# Altium footprint library poe.PcbLib: 26 footprints (part 1 of 2)
Each footprint in its own frame and in the unit in brackets; x right, y up, seen from the top. Pads: shape width x height; smd on the part's side, far side on the other; paste and mask are expansions set on the pad; w line width, h text height; cw(c..) or ccw(c..) is an arc to the next point about the centre after c.
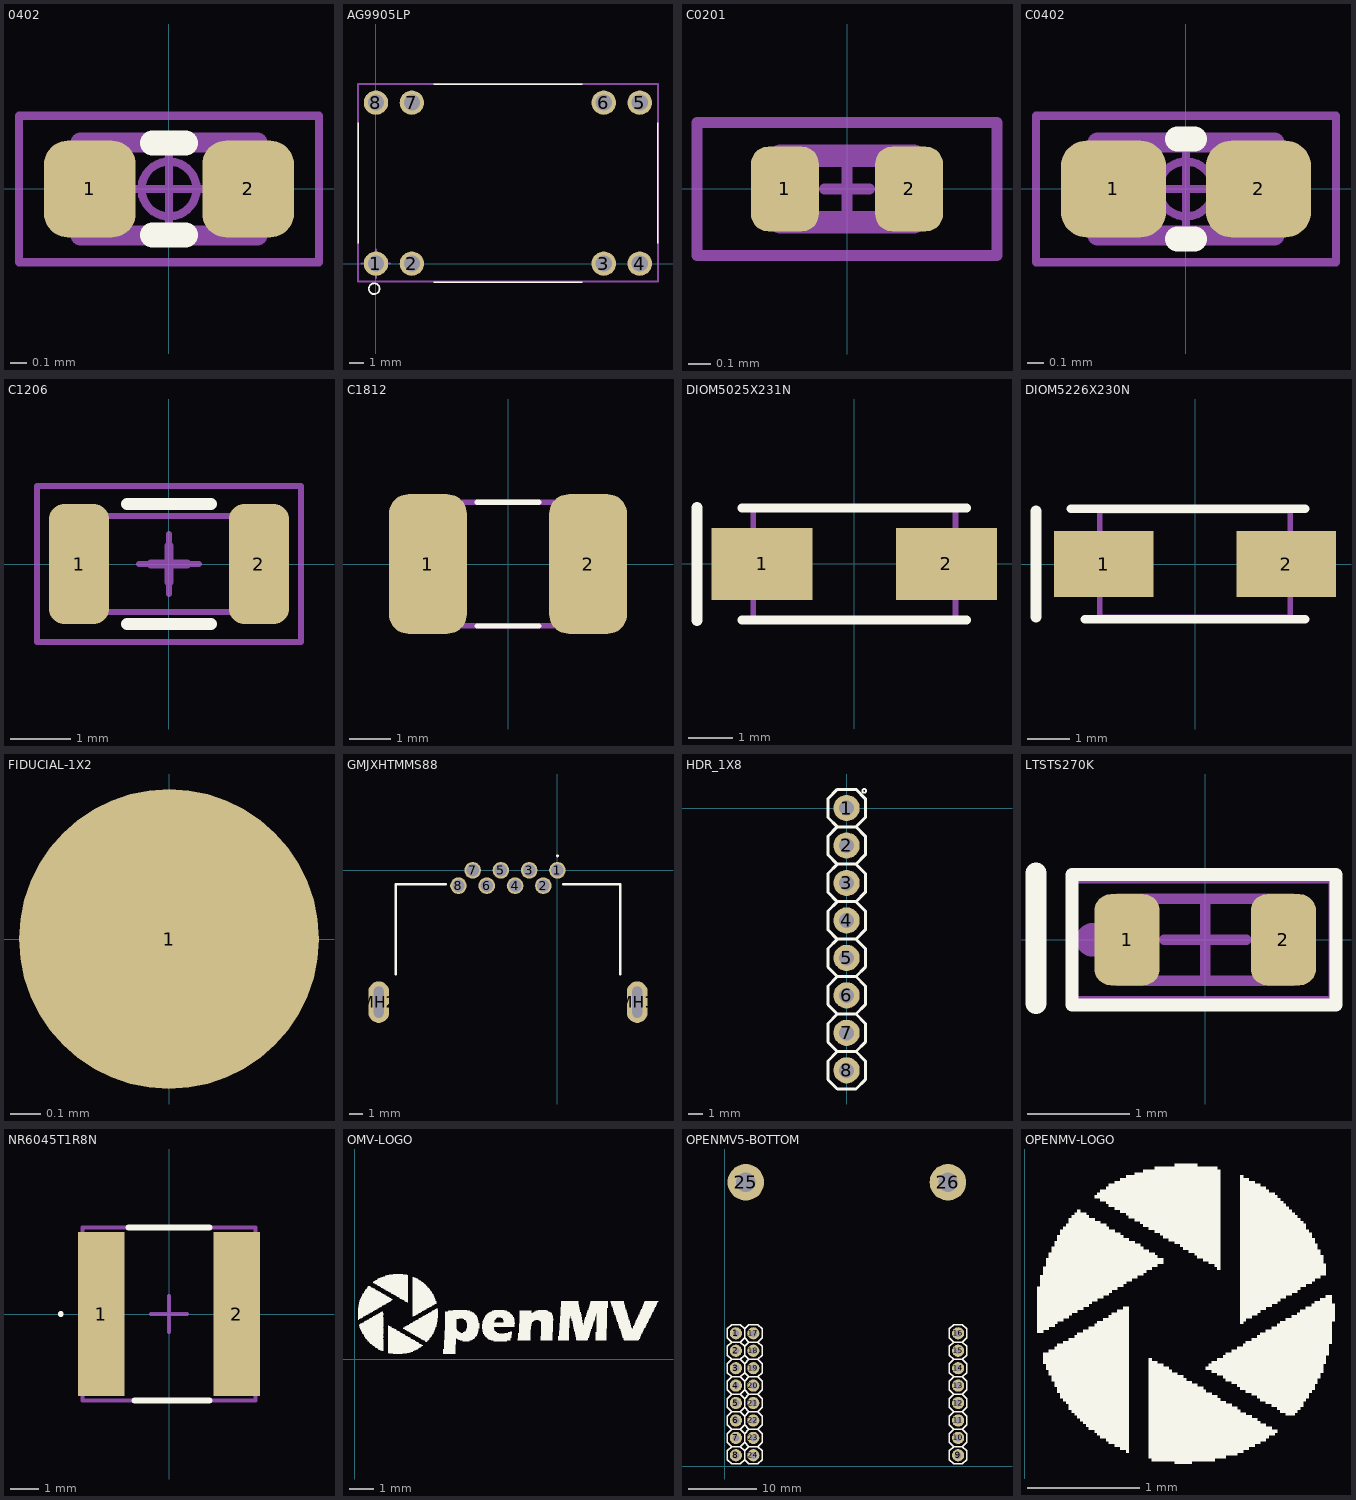
[diagram p0: the footprints below, top view; thin cyan lines are the x and y axes]

## 0402 [mm] "0402"
pads (2):
  rrect51% 0.55x0.58 smd mask+0.05: 1(-0.475,0) 2(0.475,0)
Top Overlay:
  lines w0.15: -0.1,-0.275 0.1,-0.275 ; -0.1,0.275 0.1,0.275
Mechanical 13:
  lines w0.12: -0.53,-0.28 -0.53,0.28 0.53,0.28 0.53,-0.28 -0.53,-0.28
  text ".designator" at -0.432,-0.152 h0.3
Mechanical 15:
  circle w0.05: c0,0 r0.165
  lines w0.05: -0.22,0 0.22,0 ; 0,-0.22 0,0.22 ; -0.9,-0.44 -0.9,0.44 0.9,0.44 0.9,-0.44 -0.9,-0.44
3D body "RES-0402.stp": height 0.34, standoff 0, extent -0.5,-0.25 0.5,0.25

## AG9905LP [mil] "AG9905LP"
pads (8):
  round 67.91 / inner round 0 / far side round 67.91 hole 45.28: 1(0,0) 2(100,0) 3(634.25,0) 4(734.25,0) 5(734.25,448.03) 6(634.25,448.03) 7(100,448.03) 8(0,448.03)
Top Overlay:
  circle w5: c-5,-70 r15
  lines w3.94: -50,56.69 -50,391.34 -50,56.69 ; 160.43,-51.57 573.82,-51.57 160.43,-51.57 ; 160.43,499.61 573.82,499.61 160.43,499.61 ; 784.25,56.69 784.25,391.34 784.25,56.69
Mechanical 13:
  lines w5: -40,0 0,0 ; 0,-40 0,0 ; 0,40 0,0 ; 40,0 0,0 ; -50,-50 -50,500 785,500 785,-50 -50,-50
  text ".designator" at 60,98.34 h25
3D body "Ag9900LP.step": height 320.91, standoff -112.17, extent -50,-50 784.25,501.18

## C0201 [mil] "0201 IPC-7351"
height 10.24
pads (2):
  rrect50% 12x15 smd mask+1.97: 1(-11,0) 2(11,0)
Top Solder:
  rectangle: -7,-9 8,9
Mechanical 13:
  lines w3.94: -11.81,-5.91 11.81,-5.91 11.81,5.91 -11.81,5.91 -11.81,-5.91
  text ".designator" at -7.87,-2.95 h15.75
Mechanical 15:
  lines w1.97: -3.94,0 0,0 ; 0,-3.94 0,0 ; 0,3.94 0,0 ; 3.94,0 0,0 ; -26.57,-11.81 26.57,-11.81 26.57,11.81 -26.57,11.81 -26.57,-11.81
3D body "C0201_035.step": height 13.78, standoff 0, extent -11.81,-5.88 11.81,5.92

## C0402 [mm] "Chip Capacitor, 2-Leads, Body  0402 (in) 1005 (mm), IPC Medium Density"
height 0.5
pads (2):
  rrect52% 0.63x0.58 smd mask+0.05: 1(-0.435,0) 2(0.435,0)
Top Overlay:
  lines w0.15: -0.05,-0.3 0.05,-0.3 ; -0.05,0.3 0.05,0.3
Mechanical 13:
  lines w0.12: -0.53,-0.28 -0.53,0.28 0.53,0.28 0.53,-0.28 -0.53,-0.28
  text ".designator" at -0.432,-0.178 h0.3
Mechanical 15:
  circle w0.05: c0,0 r0.165
  lines w0.05: -0.22,0 0.22,0 ; 0,-0.22 0,0.22 ; -0.9,-0.44 -0.9,0.44 0.9,0.44 0.9,-0.44 -0.9,-0.44
3D body "CAP-0402.stp": height 0.5, standoff 0, extent -0.5,-0.25 0.5,0.25

## C1206 [mm] "C1206"
pads (2):
  rrect50% 1x2 smd: 1(-1.5,0) 2(1.5,0)
Top Overlay:
  lines w0.2: -0.7,-1 0.7,-1 ; -0.7,1 0.7,1
Mechanical 13:
  lines w0.1: -1.6,-0.8 -1.6,0.8 1.575,0.8 1.575,-0.8 -1.6,-0.8
  lines w0.15: -0.3,0 0,0 ; 0,-0.3 0,0 ; 0,0.3 0,0 ; 0.3,0 0,0 ; 0,0 0,0
  text ".designator" at -1.5,-0.7 h0.38
Mechanical 15:
  lines w0.1: -0.5,0 0.5,0 ; 0,-0.5 0,0.5 ; -2.2,-1.3 -2.2,1.3 2.2,1.3 2.2,-1.3 -2.2,-1.3
3D body "CAP_CL31A_SAM.step": height 1.8, standoff 0, extent -1.702,-0.902 1.702,0.902

## C1812 [mil] "C1812"
pads (2):
  rrect50% 74.8x133.86 smd: 1(-76.77,0) 2(76.77,0)
Top Overlay:
  lines w5: -29.53,-59.27 29.53,-59.27 ; -29.53,59.06 29.53,59.06
Mechanical 13:
  lines w5: -88.58,-59.06 -88.58,59.06 88.58,59.06 88.58,-59.06 -88.58,-59.06
  text ".designator" at -68.9,-61.03 h25
3D body: height 110.24, standoff 0, extent -88.58,-59.06 88.58,59.06

## DIOM5025X231N [mil] "DIOM5025X231N"
pads (2):
  rect 88.58x62.99 smd: 1(-80.71,0) 2(80.71,0)
Top Overlay:
  lines w7.87: -98.5,-48.9 98.5,-48.9 ; -98.43,49.21 98.5,48.9
  lines w9.84: -137.8,-49.21 -137.8,49.21
Mechanical 13:
  circle w5: c-68.71,2.17 r9.84
  lines w5: -88.58,-49.21 88.58,-49.21 88.58,49.21 -88.58,49.21 -88.58,-49.21
  text ".designator" at -78.74,-51.19 h25
3D body: height 78.74, standoff 0, extent -88.58,-49.21 88.58,49.21

## DIOM5226X230N [mm] "DIOM5226X230N"
pads (2):
  rect 2.35x1.55 smd: 1(-2.15,0) 2(2.15,0)
Top Overlay:
  lines w0.2: -2.925,1.302 2.598,1.302 ; -2.598,-1.302 2.598,-1.302
  lines w0.25: -3.75,-1.25 -3.75,1.25
Mechanical 13:
  circle w0.127: c-1.745,0.055 r0.25
  lines w0.127: -2.25,-1.25 2.25,-1.25 2.25,1.25 -2.25,1.25 -2.25,-1.25
  text ".designator" at -2,-1.3 h0.64
3D body: height 2.4, standoff 0, extent -2.25,-1.25 2.25,1.25

## FIDUCIAL-1X2 [mm] "FIDUCIAL-1X2"
pads (1):
  rrect100% 1x1 smd paste+0: 1(0,0)

## GMJXHTMMS88 [mm] "GMJXHTMMS88"
pads (10):
  round 1.2 / inner round 0 / far side round 1.2 hole 0.9: 1(0,0) 2(-1.02,-1.1) 3(-2.04,0) 4(-3.06,-1.1) 5(-4.08,0) 6(-5.1,-1.1) 7(-6.12,0) 8(-7.14,-1.1)
  oval 1.5x3 hole 0.7 slot 2.25 at 90 deg: MH1(5.751,-9.5) MH2(-12.889,-9.5)
Top Overlay:
  lines w0.1: 0,1 cw(c0,1.05) 0,1.1 cw(c0,1.05) 0,1
  lines w0.2: -11.659,-7.5 -11.659,-1 -8.069,-1 ; 0.43,-1 4.521,-1 4.521,-7.5
3D body "GMJXHT-MM-S-88_rA2.STEP": height 8.81, standoff -1.89, extent -13.14,-15.475 5.99,0.2

## HDR_1X8 [mil]
pads (8):
  round 70 hole 40: 1(0,0) 2(0,-100) 3(0,-200) 4(0,-300) 5(0,-400) 6(0,-500) 7(0,-600) 8(0,-700)
Top Overlay:
  circle w5: c46.99,45.8 r5
  lines w8: -25,-650 -50,-625 -50,-575 -25,-550 ; -25,-650 -50,-675 -50,-725 -25,-750 25,-750 50,-725 50,-675 25,-650 ; -25,-650 25,-650 ; -25,-550 -50,-525 -50,-475 -25,-450 ; -25,-550 25,-550 ; -25,-450 -50,-425 -50,-375 -25,-350 ; -25,-450 25,-450 ; -25,-350 -50,-325 -50,-275 -25,-250 ; -25,-350 25,-350 ; -25,-250 -50,-225 -50,-175 -25,-150 ; -25,-250 25,-250 ; -25,-150 -50,-125 -50,-75 -25,-50 ; -25,-150 25,-150 ; -25,-50 -50,-25 -50,25 -25,50 25,50 50,25 50,-25 25,-50 ; -25,-50 25,-50 ; 25,-650 50,-625 50,-575 25,-550 ; 25,-550 50,-525 50,-475 25,-450 ; 25,-450 50,-425 50,-375 25,-350 ; 25,-350 50,-325 50,-275 25,-250 ; 25,-250 50,-225 50,-175 25,-150 ; 25,-150 50,-125 50,-75 25,-50
3D body "960240.STEP": height 334.65, standoff -412.98, extent -50,-750 50,50

## LTSTS270K [mil] "LTSTS270K"
pads (2):
  rrect50% 25x35 smd: 1(-30,0) 2(30,0)
Top Overlay:
  lines w5: -51.18,-25 50.2,-25 50.2,25 -51.18,25 -51.18,-25
  lines w8: -64.96,-24.41 -64.96,25.59
Mechanical 13:
  circle w10: c-43.3,0 r1.39
  lines w3.94: -33.46,-15.74 33.47,-15.74 33.47,15.75 -33.46,15.75 -33.46,-15.74
  text ".designator" at -28,-9 h15.75
Mechanical 15:
  lines w3.94: -15.74,0 15.75,0 ; 0,-15.74 0,15.75 ; -51.18,-23.62 49.22,-23.62 49.22,23.63 -51.18,23.63 -51.18,-23.62
3D body: height 31.5, standoff 0, extent -33.46,-15.74 33.47,15.75

## NR6045T1R8N [mm] "NR6045T1R8N"
pads (2):
  rect 1.6x5.7 smd: 1(-2.35,0) 2(2.35,0)
Top Overlay:
  lines w0.1: -3.8,0 cw(c-3.75,0) -3.7,0 cw(c-3.75,0) -3.8,0
  lines w0.2: -1.4,3 1.4,3 ; -1.2,-3 1.4,-3
Mechanical 13:
  lines w0.127: -0.635,0 0,0 ; 0,-0.635 0,0 ; 0,0.635 0,0 ; 0.635,0 0,0 ; -3,-3 3,-3 3,3 -3,3 -3,-3
  text ".designator" at -2.54,-2.963 h0.64
3D body: height 4.5, standoff 0, extent -3,-3 3,3

## OMV-LOGO [mil] "OMV-LOGO"
Top Overlay:
  drawing of 881 lines, arcs and shapes, not listed

## OPENMV5-BOTTOM [mil] "OPENMV5-BOTTOM"
pads (26):
  round 70 / inner round 0 / far side round 70 hole 40: 1(62.99,762.99) 2(62.99,662.99) 3(62.99,562.99) 4(62.99,462.99) 5(62.99,362.99) 6(62.99,262.99) 7(62.99,162.99) 8(62.99,62.99) 9(1338.58,62.99) 10(1338.58,162.99) 11(1338.58,262.99) 12(1338.58,362.99) 13(1338.58,462.99) 14(1338.58,562.99) 15(1338.58,662.99) 16(1338.58,762.99) 17(162.99,762.99) 18(162.99,662.99) 19(162.99,562.99) 20(162.99,462.99) 21(162.99,362.99) 22(162.99,262.99) 23(162.99,162.99) 24(162.99,62.99)
  round 210 / inner round 0 / far side round 210 hole 110.24: 25(120,1630) 26(1280,1630)
Top Overlay:
  drawing of 163 lines, arcs and shapes, not listed

## OPENMV-LOGO [mil] "OPENMV-LOGO"
Top Overlay:
  drawing of 262 lines, arcs and shapes, not listed